# Altium footprint library Connectors.PcbLib: 66 footprints (part 2 of 5)
Each footprint in its own frame and in the unit in brackets; x right, y up, seen from the top. Pads: shape width x height; smd on the part's side, far side on the other; paste and mask are expansions set on the pad; w line width, h text height; cw(c..) or ccw(c..) is an arc to the next point about the centre after c.
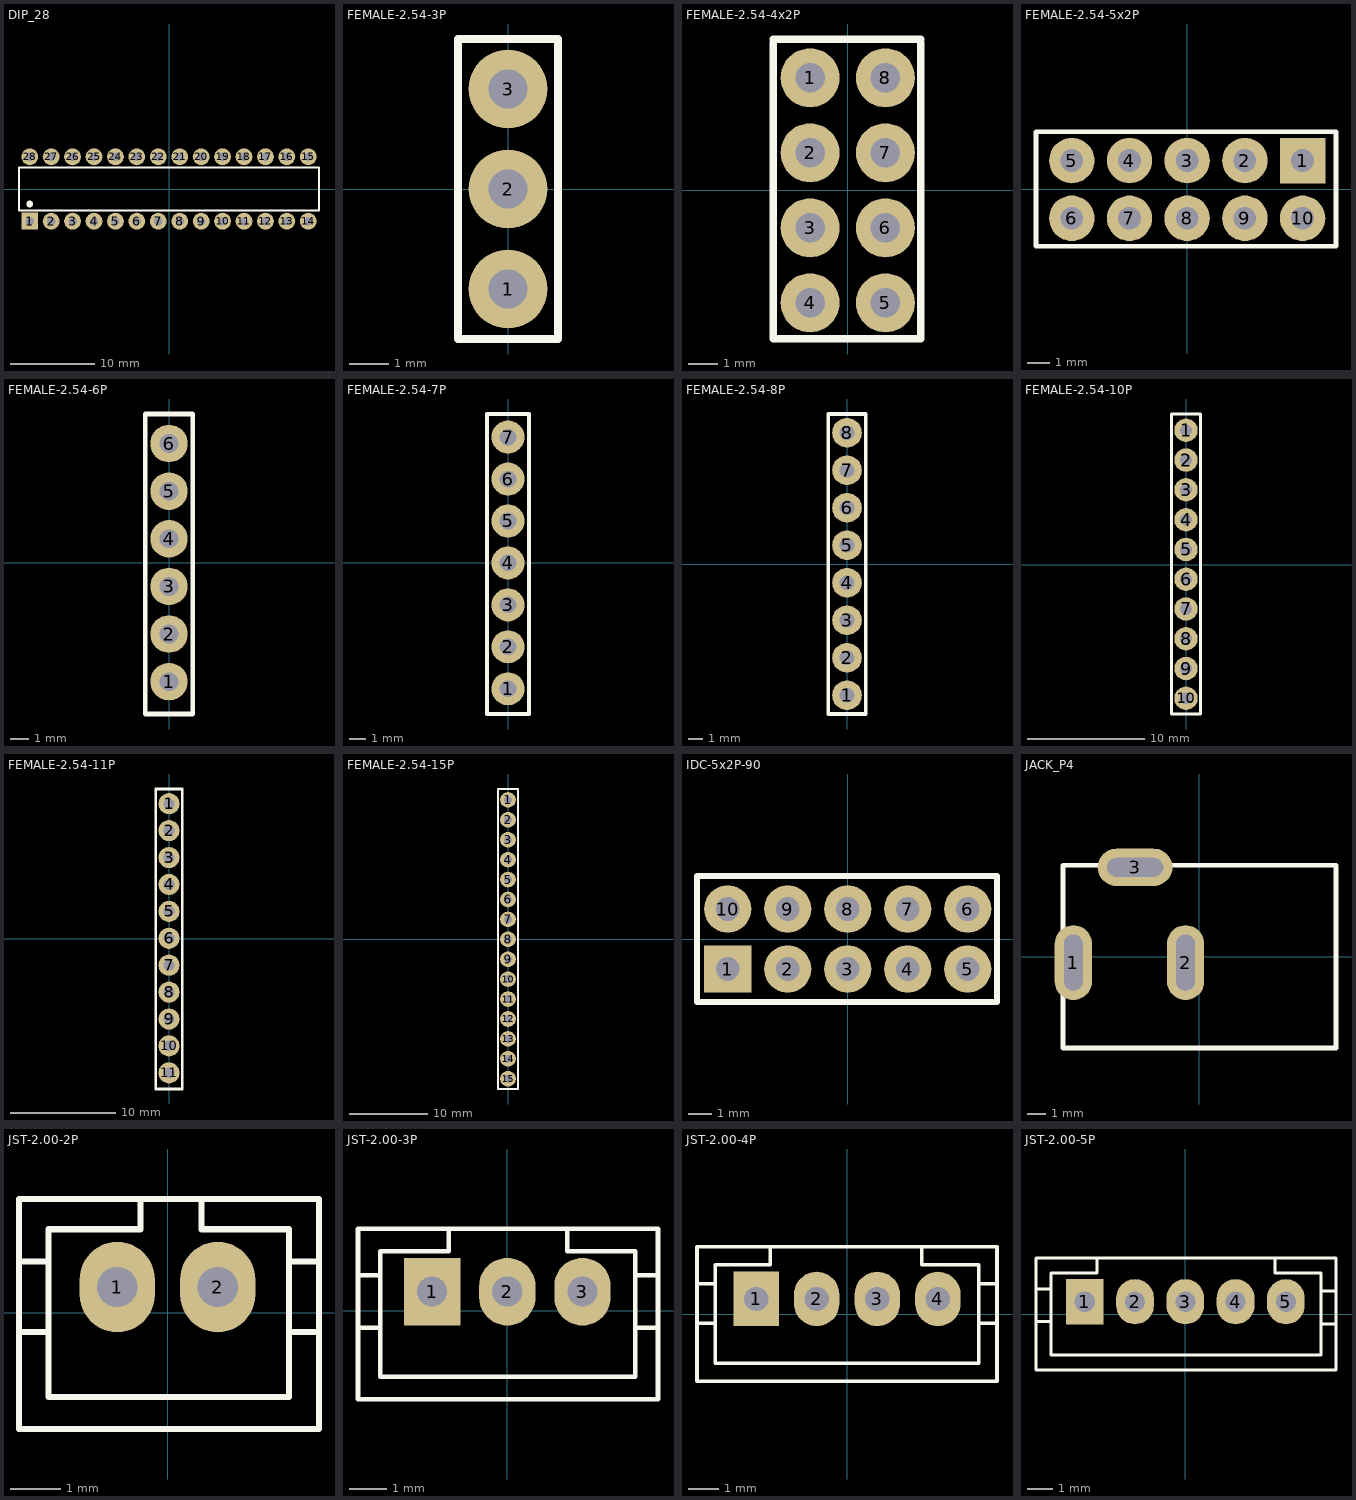
[diagram p1: the footprints below, top view; thin cyan lines are the x and y axes]

## DIP_28 [mm]
pads (28):
  rect 2x2 hole 1: 1(-16.51,-3.81)
  round 2 hole 1: 2(-13.97,-3.81) 3(-11.43,-3.81) 4(-8.89,-3.81) 5(-6.35,-3.81) 6(-3.81,-3.81) 7(-1.27,-3.81) 8(1.27,-3.81) 9(3.81,-3.81) 10(6.35,-3.81) 11(8.89,-3.81) 12(11.43,-3.81) 13(13.97,-3.81) 14(16.51,-3.81) 15(16.51,3.81) 16(13.97,3.81) 17(11.43,3.81) 18(8.89,3.81) 19(6.35,3.81) 20(3.81,3.81) 21(1.27,3.81) 22(-1.27,3.81) 23(-3.81,3.81) 24(-6.35,3.81) 25(-8.89,3.81) 26(-11.43,3.81) 27(-13.97,3.81) 28(-16.51,3.81)
Top Overlay:
  circle w0.4: c-16.51,-1.778 r0.2
  lines w0.229: -17.78,-2.54 17.78,-2.54 17.78,2.54 -17.78,2.54 -17.78,-2.54
3D body "DIP28.stp": height 5.2, standoff -3.05, extent -17.767,-5.143 17.793,5.016

## FEMALE-2.54-3P [mm]
pads (3):
  round 2 hole 1: 1(0,-2.54) 2(0,0) 3(0,2.54)
Top Overlay:
  lines w0.203: 1.27,-1.058 1.27,3.81 ; 1.27,3.81 1.27,-3.81 -1.27,-3.81 -1.27,3.81 1.269,3.81
3D body "FEMALE-2.54-3P.SLDPRT": height 8.5, standoff 0.1, extent -1.194,-3.767 1.206,3.753

## FEMALE-2.54-4x2P [mm]
pads (8):
  round 2 hole 1: 1(-1.275,3.81) 2(-1.275,1.27) 3(-1.275,-1.27) 4(-1.275,-3.81) 5(1.275,-3.81) 6(1.275,-1.27) 7(1.275,1.27) 8(1.275,3.81)
Top Overlay:
  lines w0.254: -2.525,4.997 -2.525,-5.036 2.475,-5.036 2.475,4.997 ; -2.525,5.124 -1.275,5.124 1.225,5.124 2.475,5.124
3D body "FEMALE-2.54-4x2P.SLDPRT": height 8.6, standoff 0, extent -2.275,-4.766 2.265,4.853

## FEMALE-2.54-5x2P [mm]
pads (10):
  rect 2x2 hole 1: 1(5.08,1.27)
  round 2 hole 1: 2(2.54,1.27) 3(0,1.27) 4(-2.54,1.27) 5(-5.08,1.27) 6(-5.08,-1.27) 7(-2.54,-1.27) 8(0,-1.27) 9(2.54,-1.27) 10(5.08,-1.27)
Top Overlay:
  lines w0.2: -6.656,-2.504 -6.656,2.54 6.552,2.54 6.552,-2.504 -6.656,-2.504
3D body "FEMALE-2.54-5x2P.stp": height 8.5, standoff -3, extent -6.652,-2.464 6.548,2.536

## FEMALE-2.54-6P [mm]
pads (6):
  round 2 hole 1: 1(0,-6.35) 2(0,-3.81) 3(0,-1.27) 4(0,1.27) 5(0,3.81) 6(0,6.35)
Top Overlay:
  lines w0.254: -1.27,-8.076 1.27,-8.076 1.27,7.926 -1.27,7.926 -1.27,-8.076
3D body "FEMALE-2.54-6P.stp": height 8.3, standoff -3.2, extent -1.188,-8.125 1.212,7.975

## FEMALE-2.54-7P [mm]
pads (7):
  round 2 hole 1: 1(0,-7.62) 2(0,-5.08) 3(0,-2.54) 4(0,0) 5(0,2.54) 6(0,5.08) 7(0,7.62)
Top Overlay:
  lines w0.254: -1.27,-9.144 1.27,-9.144 1.27,9.017 -1.27,9.017 -1.27,-9.144
3D body "FEMALE-2.54-7P.STEP": height 8.5, standoff -3, extent -1.2,-9.09 1.2,9.09

## FEMALE-2.54-8P [mm]
pads (8):
  round 2 hole 1: 1(0,-8.89) 2(0,-6.35) 3(0,-3.81) 4(0,-1.27) 5(0,1.27) 6(0,3.81) 7(0,6.35) 8(0,8.89)
Top Overlay:
  lines w0.254: -1.27,-10.16 1.27,-10.16 1.27,10.16 -1.27,10.16 -1.27,-10.16
3D body "FEMALE-2.54-8P.SLDPRT": height 8.5, standoff 0.1, extent -1.188,-10.108 1.212,10.212

## FEMALE-2.54-10P [mm]
pads (10):
  round 2 hole 1: 1(0,11.467) 2(0,8.927) 3(0,6.387) 4(0,3.847) 5(0,1.307) 6(0,-1.233) 7(0,-3.773) 8(0,-6.313) 9(0,-8.853) 10(0,-11.393)
Top Overlay:
  lines w0.254: -1.25,-12.73 1.25,-12.73 1.25,12.857 -1.25,12.857 -1.25,-12.73

## FEMALE-2.54-11P [mm]
pads (11):
  round 2 hole 1: 1(0,12.767) 2(0,10.227) 3(0,7.687) 4(0,5.147) 5(0,2.607) 6(0,0.067) 7(0,-2.473) 8(0,-5.013) 9(0,-7.553) 10(0,-10.093) 11(0,-12.633)
Top Overlay:
  lines w0.254: -1.25,-14.157 1.25,-14.157 1.25,14.157 -1.25,14.157 -1.25,-14.157

## FEMALE-2.54-15P [mm]
pads (15):
  round 2 hole 1: 1(0,17.78) 2(0,15.24) 3(0,12.7) 4(0,10.16) 5(0,7.62) 6(0,5.08) 7(0,2.54) 8(0,0) 9(0,-2.54) 10(0,-5.08) 11(0,-7.62) 12(0,-10.16) 13(0,-12.7) 14(0,-15.24) 15(0,-17.78)
Top Overlay:
  lines w0.254: -1.25,-19.088 -1.25,19.17 1.25,19.17 1.25,-19.088 -1.25,-19.088
3D body "FEMALE-2.54-15P.SLDPRT": height 8.5, standoff 0.1, extent -1.115,-19.134 1.285,19.266

## IDC-5x2P-90 [mm]
pads (10):
  rect 2x2 hole 1: 1(-5.08,-1.27)
  round 2 hole 1: 2(-2.54,-1.27) 3(0,-1.27) 4(2.54,-1.27) 5(5.08,-1.27) 6(5.08,1.27) 7(2.54,1.27) 8(0,1.27) 9(-2.54,1.27) 10(-5.08,1.27)
Top Overlay:
  lines w0.254: -6.381,-2.667 -6.381,2.667 6.319,2.667 6.319,-2.667 -6.381,-2.667
3D body "IDC-5X2P-90.stp": height 8.9, standoff -3, extent -10.191,-1.549 10.309,12.471

## JACK_P4 [mm]
pads (3):
  oval 2x4 hole 1 slot 3 at 90 deg: 1(-6.747,-0.318) 2(-0.747,-0.318)
  oval 4x2 hole 1 slot 3 at 0 deg: 3(-3.447,4.782)
Top Overlay:
  lines w0.254: -7.302,-4.889 7.302,-4.889 7.302,4.889 -7.302,4.889 -7.302,-4.889
3D body "PCM DC Power Jack 2mm Pin.STEP": height 11.38, standoff -4.72, extent -7.267,-4.917 7.233,4.883

## JST-2.00-2P [mm]
pads (2):
  oval 1.5x1.8 hole 0.8 paste-2539.97 mask+0.051: 1(-1,0.508) 2(1,0.508)
Top Overlay:
  lines w0.12: -2.955,-0.382 -2.366,-0.382 ; -2.955,1.019 -2.366,1.019 ; -0.542,2.258 -0.542,1.658 -2.366,1.658 -2.366,-1.679 2.414,-1.679 2.414,1.658 0.672,1.658 0.672,2.258 ; 2.431,-0.382 3.014,-0.382 ; 2.431,1.018 3.014,1.018 ; -2.955,-2.314 3.014,-2.314 3.014,2.258 -2.955,2.258 -2.955,-2.314
3D body "JST-2.00-2P.stp": height 6.1, standoff -3.3, extent -2.92,-2.294 2.98,2.206

## JST-2.00-3P [mm]
pads (3):
  rect 1.5x1.8 hole 0.8 paste-2539.97 mask+0.051: 1(-2,0.508)
  oval 1.5x1.8 hole 0.8 paste-2539.97 mask+0.051: 2(0,0.508) 3(2,0.508)
Top Overlay:
  lines w0.12: -3.97,-0.458 -3.381,-0.458 ; -3.97,0.943 -3.381,0.943 ; -1.557,2.182 -1.557,1.582 -3.381,1.582 -3.381,-1.755 3.408,-1.755 3.408,1.582 1.595,1.582 1.595,2.182 ; 3.408,-0.45 4.008,-0.45 ; 3.408,0.95 4.008,0.95 ; -3.97,-2.355 4.008,-2.355 4.008,2.182 -3.97,2.182 -3.97,-2.355
3D body "JST-2.00-3P.stp": height 6.1, standoff -3.3, extent -3.942,-2.31 3.958,2.19

## JST-2.00-4P [mm]
pads (4):
  rect 1.5x1.8 hole 0.8 paste-2539.97 mask+0.102: 1(-3,0.508)
  oval 1.5x1.8 hole 0.8 paste-2539.97 mask+0.102: 2(-1,0.508) 3(1,0.508) 4(3,0.508)
Top Overlay:
  lines w0.12: -4.953,-0.292 -4.353,-0.292 ; -4.953,1.008 -4.353,1.008 ; -2.529,2.234 -2.529,1.634 -4.353,1.634 -4.353,-1.611 4.353,-1.611 4.353,1.634 2.47,1.634 2.47,2.234 ; 4.353,-0.292 4.885,-0.292 ; 4.353,1.008 4.885,1.008 ; -4.953,-2.211 4.953,-2.211 4.953,2.234 -4.953,2.234 -4.953,-2.211
3D body "JST-2.00-4P.stp": height 6.1, standoff -3.3, extent -4.95,-2.267 4.95,2.233

## JST-2.00-5P [mm]
pads (5):
  rect 1.5x1.8 hole 0.8 paste-2539.97 mask+0.051: 1(-4,0.508)
  oval 1.5x1.8 hole 0.8 paste-2539.97 mask+0.051: 2(-2,0.508) 3(0,0.508) 4(2,0.508) 5(4,0.508)
Top Overlay:
  lines w0.12: -5.941,-0.284 -5.341,-0.284 ; -5.941,1.016 -5.341,1.016 ; -3.517,2.242 -3.517,1.642 -5.341,1.642 -5.341,-1.603 5.397,-1.603 5.397,1.642 3.573,1.642 3.573,2.242 ; 5.397,-0.373 5.997,-0.373 ; 5.397,0.927 5.997,0.927 ; -5.941,-2.203 -5.941,2.242 5.997,2.242 5.997,-2.203 -5.941,-2.203
3D body "JST-2.00-5P.stp": height 6.1, standoff -3.3, extent -5.903,-2.242 5.997,2.258